# Altium schematic symbol library axsem_osc_v1-3.SCHLIB: 8 symbols
Pins are listed as number, name and electrical type; pins without a type are passive.

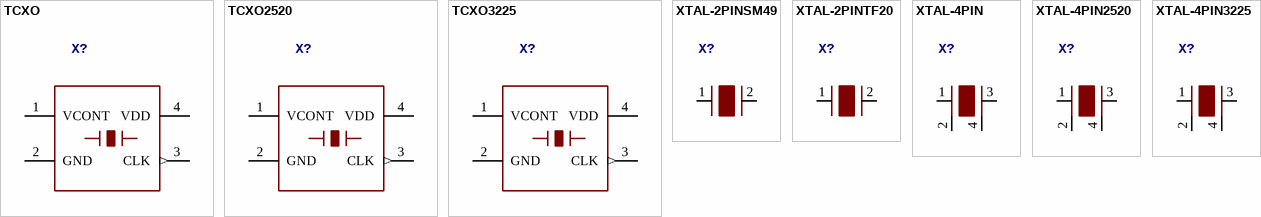
[diagram p0: symbols TCXO to XTAL-4PIN3225]

## TCXO
designator X?
footprint X2016
pins: 1 VCONT, 2 GND (power), 3 CLK (out), 4 VDD (power)

## TCXO2520
designator X?
footprint X2520
pins: 1 VCONT, 2 GND (power), 3 CLK (out), 4 VDD (power)

## TCXO3225
designator X?
footprint X3225
pins: 1 VCONT, 2 GND (power), 3 CLK (out), 4 VDD (power)

## XTAL-2PINSM49
designator X?
footprint SM49
pins: 1 P1, 2 P2

## XTAL-2PINTF20
designator X?
footprint TF20
pins: 1 P1, 2 P2

## XTAL-4PIN
designator X?
footprint X2016
pins: 1 P1, 2 P2, 3 P3, 4 P4

## XTAL-4PIN2520
designator X?
footprint X2520
pins: 1 P1, 2 P2, 3 P3, 4 P4

## XTAL-4PIN3225
designator X?
footprint X3225
pins: 1 P1, 2 P2, 3 P3, 4 P4